# Altium footprint library audio_dev_pcb.PcbLib: 22 footprints (part 2 of 2)
Each footprint in its own frame and in the unit in brackets; x right, y up, seen from the top. Pads: shape width x height; smd on the part's side, far side on the other; paste and mask are expansions set on the pad; w line width, h text height; cw(c..) or ccw(c..) is an arc to the next point about the centre after c.
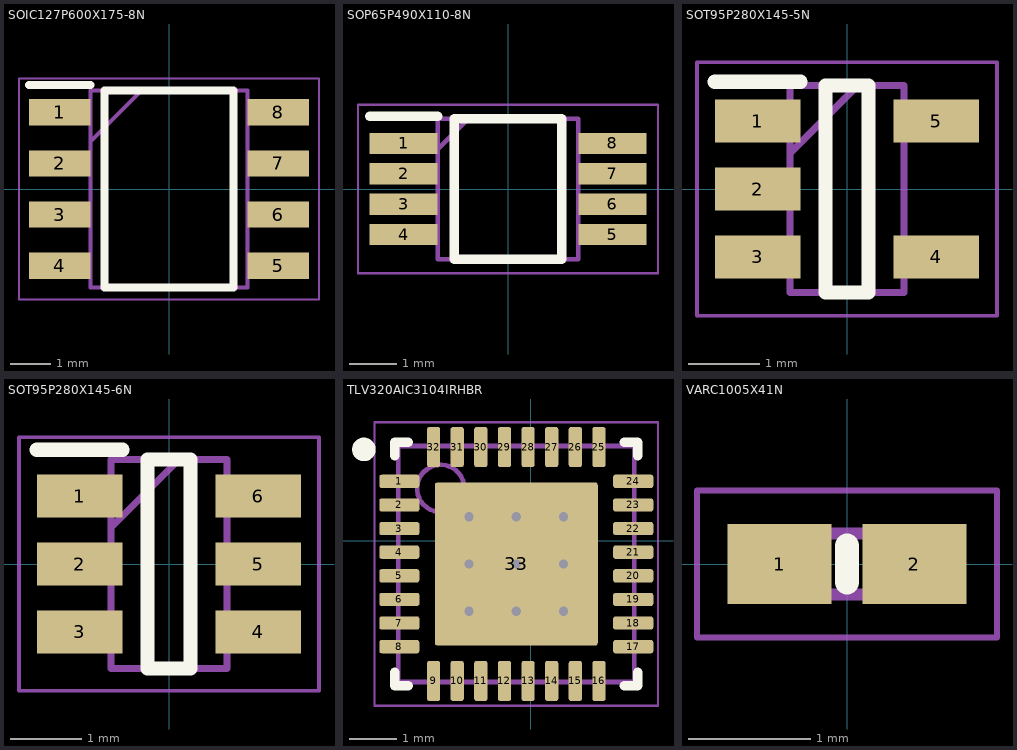
[diagram p1: the footprints below, top view; thin cyan lines are the x and y axes]

## SOIC127P600X175-8N [mm]
pads (8):
  rect 1.525x0.65 smd: 1(-2.712,1.905) 2(-2.712,0.635) 3(-2.712,-0.635) 4(-2.712,-1.905) 5(2.712,-1.905) 6(2.712,-0.635) 7(2.712,0.635) 8(2.712,1.905)
Top Overlay:
  lines w0.2: -3.475,2.58 -1.95,2.58 ; -1.6,-2.45 -1.6,2.45 1.6,2.45 1.6,-2.45 -1.6,-2.45
Mechanical 13:
  lines w0.1: -1.95,1.18 -0.68,2.45 ; -1.95,-2.45 -1.95,2.45 1.95,2.45 1.95,-2.45 -1.95,-2.45
Mechanical 15:
  lines w0.05: -3.725,-2.75 -3.725,2.75 3.725,2.75 3.725,-2.75 -3.725,-2.75
3D body "IS25LP080D-JNLE-TR.stp": height 1.75, standoff 0, extent -3,-2.45 3,2.45

## SOP65P490X110-8N [mm]
pads (8):
  rect 1.45x0.45 smd: 1(-2.225,0.975) 2(-2.225,0.325) 3(-2.225,-0.325) 4(-2.225,-0.975) 5(2.225,-0.975) 6(2.225,-0.325) 7(2.225,0.325) 8(2.225,0.975)
Top Overlay:
  lines w0.2: -2.95,1.55 -1.5,1.55 ; -1.15,-1.5 1.15,-1.5 1.15,1.5 -1.15,1.5 -1.15,-1.5
Mechanical 13:
  lines w0.1: -1.5,0.85 -0.85,1.5 ; -1.5,-1.5 1.5,-1.5 1.5,1.5 -1.5,1.5 -1.5,-1.5
Mechanical 15:
  lines w0.05: -3.2,-1.8 3.2,-1.8 3.2,1.8 -3.2,1.8 -3.2,-1.8
3D body "STMPS2151TTR.stp": height 1.1, standoff 0, extent -2.45,-1.5 2.45,1.5

## SOT95P280X145-5N [mm]
pads (5):
  rect 1.2x0.6 smd: 1(-1.25,0.95) 2(-1.25,0) 3(-1.25,-0.95) 4(1.25,-0.95) 5(1.25,0.95)
Top Overlay:
  lines w0.2: -1.85,1.5 -0.65,1.5 ; -0.3,-1.45 -0.3,1.45 0.3,1.45 0.3,-1.45 -0.3,-1.45
Mechanical 13:
  lines w0.1: -0.8,0.5 0.15,1.45 ; -0.8,-1.45 -0.8,1.45 0.8,1.45 0.8,-1.45 -0.8,-1.45
Mechanical 15:
  lines w0.05: -2.1,-1.775 -2.1,1.775 2.1,1.775 2.1,-1.775 -2.1,-1.775
3D body "TLV9161IDBVR.stp": height 1.2, standoff 0, extent -1.4,-1.45 1.4,1.45

## SOT95P280X145-6N [mm]
pads (6):
  rect 1.2x0.6 smd: 1(-1.25,0.95) 2(-1.25,0) 3(-1.25,-0.95) 4(1.25,-0.95) 5(1.25,0) 6(1.25,0.95)
Top Overlay:
  lines w0.2: -1.85,1.6 -0.65,1.6 ; -0.3,-1.462 0.3,-1.462 0.3,1.462 -0.3,1.462 -0.3,-1.462
Mechanical 13:
  lines w0.1: -0.812,0.512 0.138,1.462 ; -0.812,-1.462 0.812,-1.462 0.812,1.462 -0.812,1.462 -0.812,-1.462
Mechanical 15:
  lines w0.05: -2.1,-1.775 2.1,-1.775 2.1,1.775 -2.1,1.775 -2.1,-1.775
3D body "USBLC6-2SC6.stp": height 1.45, standoff 0, extent -1.4,-1.462 1.4,1.462

## TLV320AIC3104IRHBR [mm]
pads (33):
  rrect36% 0.85x0.28 smd: 1(-2.781,1.257) 2(-2.781,0.757) 3(-2.781,0.257) 4(-2.781,-0.243) 5(-2.781,-0.743) 6(-2.781,-1.243) 7(-2.781,-1.743) 8(-2.781,-2.243) 17(2.169,-2.243) 18(2.169,-1.743) 19(2.169,-1.243) 20(2.169,-0.743) 21(2.169,-0.243) 22(2.169,0.257) 23(2.169,0.757) 24(2.169,1.257)
  rrect36% 0.28x0.85 smd: 9(-2.056,-2.968) 10(-1.556,-2.968) 11(-1.056,-2.968) 12(-0.556,-2.968) 13(-0.056,-2.968) 14(0.444,-2.968) 15(0.944,-2.968) 16(1.444,-2.968) 25(1.444,1.982) 26(0.944,1.982) 27(0.444,1.982) 28(-0.056,1.982) 29(-0.556,1.982) 30(-1.056,1.982) 31(-1.556,1.982) 32(-2.056,1.982)
  rrect3% 3.45x3.45 smd: 33(-0.306,-0.493)
via -1.306,0.507 diameter 0.5 hole 0.2
via -0.306,0.507 diameter 0.5 hole 0.2
via 0.694,0.507 diameter 0.5 hole 0.2
via -1.306,-0.493 diameter 0.5 hole 0.2
via -0.306,-0.493 diameter 0.5 hole 0.2
via 0.694,-0.493 diameter 0.5 hole 0.2
via -1.306,-1.493 diameter 0.5 hole 0.2
via -0.306,-1.493 diameter 0.5 hole 0.2
via 0.694,-1.493 diameter 0.5 hole 0.2
Top Overlay:
  circle w0.25: c-3.531,1.932 r0.125
  lines w0.2: -2.881,-2.783 -2.881,-3.068 -2.596,-3.068 ; -2.881,1.797 -2.881,2.082 -2.596,2.082 ; 1.984,-3.068 2.269,-3.068 2.269,-2.783 ; 1.984,2.082 2.269,2.082 2.269,1.797
Mechanical 1:
  text ".Designator" at -1.83,-1.001 h1.02
Mechanical 13:
  circle w0.1: c-1.906,1.107 r0.5
  lines w0.1: -2.806,-2.993 -2.806,2.007 2.194,2.007 2.194,-2.993 -2.806,-2.993
Mechanical 15:
  lines w0.05: -3.306,-3.493 -3.306,2.507 2.694,2.507 2.694,-3.493 -3.306,-3.493
  lines w0.1: -0.806,-0.493 0.194,-0.493 ; -0.306,-0.993 -0.306,0.007
3D body: height 1, standoff 0, extent -2.806,-2.993 2.194,2.007

## VARC1005X41N [mm]
pads (2):
  rect 0.85x0.65 smd: 1(-0.55,0) 2(0.55,0)
Top Overlay:
  lines w0.2: 0,-0.15 0,0.15
Mechanical 13:
  lines w0.1: -0.5,-0.25 -0.5,0.25 0.5,0.25 0.5,-0.25 -0.5,-0.25
Mechanical 15:
  lines w0.05: -1.225,-0.6 -1.225,0.6 1.225,0.6 1.225,-0.6 -1.225,-0.6
3D body "CG0402MLU-12G.stp": height 0.41, standoff 0, extent -0.5,-0.25 0.5,0.25